# EAGLE library part MA11-1 (library 000001)
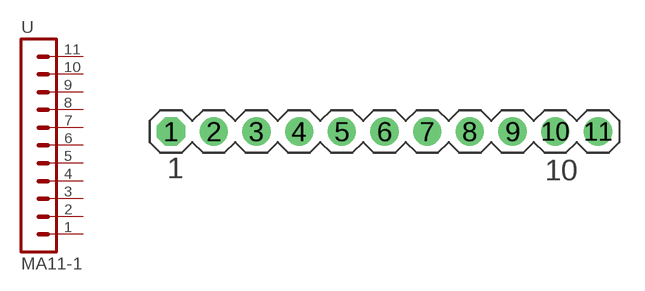
[diagram p76: symbol with the pads of MA11-1; footprint MA11-1]

Designator prefix -

## MA11-1PCB  [MA11-1]
1  1  pas
2  2  pas
3  3  pas
4  4  pas
5  5  pas
6  6  pas
7  7  pas
8  8  pas
9  9  pas
10  10  pas
11  11  pas

## Footprint MA11-1 (pad centres in mm)
drill 0.95 pad 1.676 octagon: 1 -12.7,0
drill 0.95 pad 1.676 round: 2 -10.16,0; 3 -7.62,0; 4 -5.08,0; 5 -2.54,0; 6 0,0; 7 2.54,0; 8 5.08,0; 9 7.62,0; 10 10.16,0; 11 12.7,0